# Altium footprint library Protel 99SE BANKS PCB.PCBLIB: 278 footprints (part 18 of 18)
Each footprint in its own frame and in the unit in brackets; x right, y up, seen from the top. Pads: shape width x height; smd on the part's side, far side on the other; paste and mask are expansions set on the pad; w line width, h text height; cw(c..) or ccw(c..) is an arc to the next point about the centre after c.
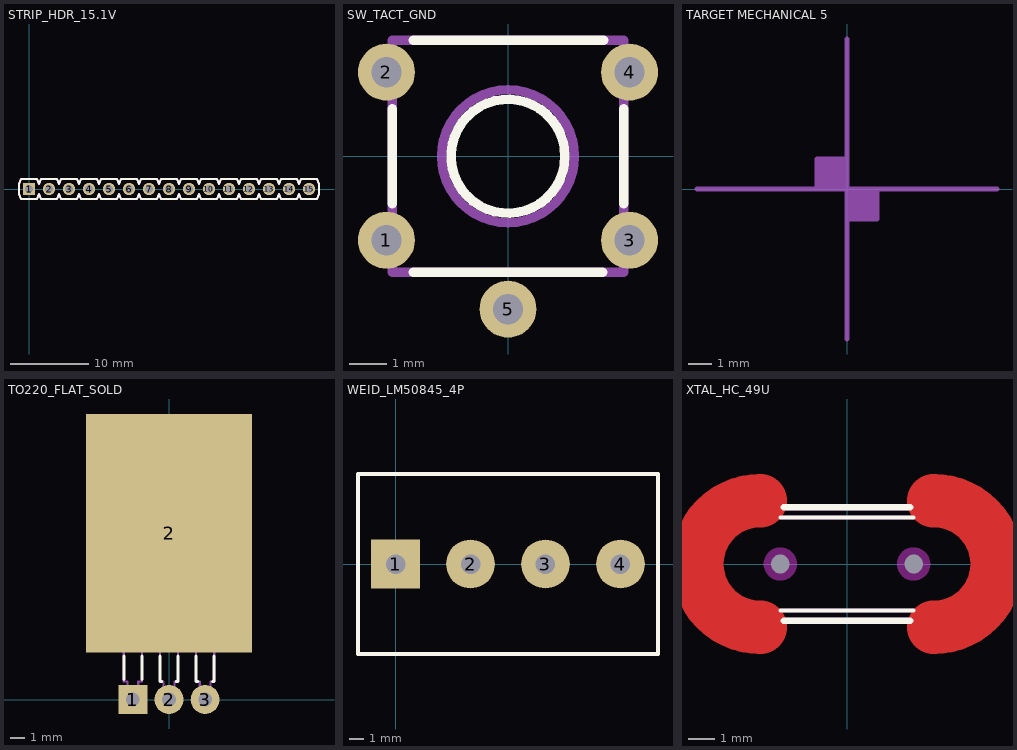
[diagram p17: the footprints below, top view; thin cyan lines are the x and y axes]

## STRIP_HDR_15.1V [mil]
pads (15):
  rect 62x62 hole 38: 1(0,0)
  round 62 hole 38: 2(100,0) 3(200,0) 4(300,0) 5(400,0) 6(500,0) 7(600,0) 8(700,0) 9(800,0) 10(900,0) 11(1000,0) 12(1100,0) 13(1200,0) 14(1300,0) 15(1400,0)
TopOverlay:
  lines w10: 140,-50 150,-25 ; 140,-50 60,-50 50,-25 40,-50 -40,-50 -50,-25 -50,25 -40,50 40,50 50,25 60,50 140,50 ; 140,-50 150,-25 ; 140,50 150,25 ; 140,50 150,25 ; 150,-25 160,-50 240,-50 ; 150,25 160,50 240,50 ; 240,-50 250,-25 ; 240,-50 250,-25 ; 240,50 250,25 ; 240,50 250,25 ; 250,-25 260,-50 340,-50 ; 250,25 260,50 340,50 ; 340,-50 350,-25 ; 340,-50 350,-25 ; 340,50 350,25 ; 340,50 350,25 ; 350,-25 360,-50 440,-50 ; 350,25 360,50 440,50 ; 440,-50 450,-25 ; 440,-50 450,-25 ; 440,50 450,25 ; 440,50 450,25 ; 450,-25 460,-50 540,-50 550,-25 560,-50 640,-50 ; 450,25 460,50 540,50 550,25 560,50 640,50 ; 640,-50 650,-25 ; 640,-50 650,-25 ; 640,50 650,25 ; 640,50 650,25 ; 650,-25 660,-50 740,-50 750,-25 760,-50 840,-50 ; 650,25 660,50 740,50 750,25 760,50 840,50 ; 840,-50 850,-25 ; 840,-50 850,-25 ; 840,50 850,25 ; 840,50 850,25 ; 850,-25 860,-50 940,-50 ; 850,25 860,50 940,50 ; 940,-50 950,-25 ; 940,-50 950,-25 ; 940,50 950,25 ; 940,50 950,25 ; 950,-25 960,-50 1040,-50 ; 950,25 960,50 1040,50 ; 1040,-50 1050,-25 ; 1040,-50 1050,-25 ; 1040,50 1050,25 ; 1040,50 1050,25 ; 1050,-25 1060,-50 1140,-50 ; 1050,25 1060,50 1140,50 ; 1140,-50 1150,-25 ; 1140,-50 1150,-25 ; 1140,50 1150,25 ; 1140,50 1150,25 ; 1150,-25 1160,-50 1240,-50 1250,-25 1260,-50 1340,-50 ; 1150,25 1160,50 1240,50 1250,25 1260,50 1340,50 ; 1340,-50 1350,-25 ; 1340,-50 1350,-25 ; 1340,50 1350,25 ; 1340,50 1350,25 ; 1350,-25 1360,-50 1440,-50 1450,-25 1450,25 1440,50 1360,50 1350,25
Mechanical3:
  drawing of 292 lines, arcs and shapes, not listed

## SW_TACT_GND [mil] "TACTILE MOM NO SWITCH 6MM SQ. W/ ESD GND"
height 197
pads (5):
  round 60 hole 32: 1(-128,-88.5) 2(-128,88.5) 3(128,-88.5) 4(128,88.5) 5(0,-161)
TopOverlay:
  circle w10: c0,0 r60
  lines w10: -122,-50 -122,50 ; -100,-122 100,-122 ; -100,122 101,122 ; 122,-50 122,50
Mechanical3:
  circle w10: c0,0 r70
  lines w10: -122,-122 122,-122 122,122 -122,122 -122,-122

## TARGET MECHANICAL 5 [mil]
Mechanical5:
  lines w8: -250,0 250,0 ; -50,0 -50,50 0,50 ; -40,35 -40,10 -10,10 -10,40 -40,40 ; -35,30 -35,15 -15,15 -15,35 -35,35 ; -30,25 -20,25 ; 0,-250 0,250 ; 0,-50 50,-50 50,0 ; 10,-15 10,-40 40,-40 40,-10 10,-10 ; 15,-20 15,-35 35,-35 35,-15 15,-15 ; 20,-25 30,-25 ; -45,5 -45,45 -5,45 -5,5 -45,5 ; -30,20 -30,30 -20,30 -20,20 -30,20 ; 5,-45 5,-5 45,-5 45,-45 5,-45 ; 20,-30 20,-20 30,-20 30,-30 20,-30

## TO220_FLAT_SOLD [mil]
pads (4):
  rect 80x80 hole 38: 1(-100,0)
  round 80 hole 38: 2(0,0) 3(100,0)
  rect 460x660 smd: 2(0,460)
TopOverlay:
  lines w8: -125,55 -125,120 ; -75,55 -75,120 ; -25,120 -25,50 -20,50 ; 20,50 25,50 25,120 ; 75,120 75,50 80,50 ; 120,50 125,50 125,120
Mechanical3:
  circle w10: c0,650 r75
  lines w6: -200,510 -185,495 ; -185,160 -185,495 ; -125,160 -125,50 -115,50 -115,-10 -85,-10 -85,50 -75,50 -75,160 ; -25,160 -25,50 -15,50 -15,-10 15,-10 15,50 25,50 25,160 ; 75,160 75,50 85,50 85,-10 115,-10 115,50 125,50 125,160 ; 185,160 185,495 ; 200,510 185,495 ; -185,495 185,495
  lines w10: -200,510 200,510 ; -200,160 -200,760 200,760 200,160 -200,160

## WEID_LM50845_4P [mil]
pads (4):
  rect 130x130 hole 52: 1(0,0)
  round 130 hole 52: 2(200,0) 3(400,0) 4(600,0)
TopOverlay:
  lines w10: -100,-240 700,-240 700,240 -100,240 -100,-240

## XTAL_HC_49U [mil]
pads (2):
  round 10 / inner round 50 / far side round 50 hole 28: 1(-100,0) 2(100,0)
TopLayer:
  lines w80: -130,-95 cw(c-130,0) -130,95 ; 130,-95 ccw(c130,0) 130,95
TopOverlay:
  lines w6: -100,-70 100,-70 ; -100,70 100,70
  lines w10: -95,-85 95,-85 ; -95,85 95,85
TopSolder:
  lines w86: -130,-95 cw(c-130,0) -130,95 ; 130,-95 ccw(c130,0) 130,95
KeepOutLayer:
  circle w30: c-100,0 r10
  circle w30: c100,0 r10
Mechanical3:
  lines w6: -130,-70 cw(c-130,0) -130,70 130,70 cw(c130,0) 130,-70 -130,-70
  lines w10: -130,-85 cw(c-130,0) -130,85 135,85 cw(c135,0) 135,-85 -130,-85